# Altium footprint library Mosfet.PcbLib: 27 footprints (part 2 of 2)
Each footprint in its own frame and in the unit in brackets; x right, y up, seen from the top. Pads: shape width x height; smd on the part's side, far side on the other; paste and mask are expansions set on the pad; w line width, h text height; cw(c..) or ccw(c..) is an arc to the next point about the centre after c.
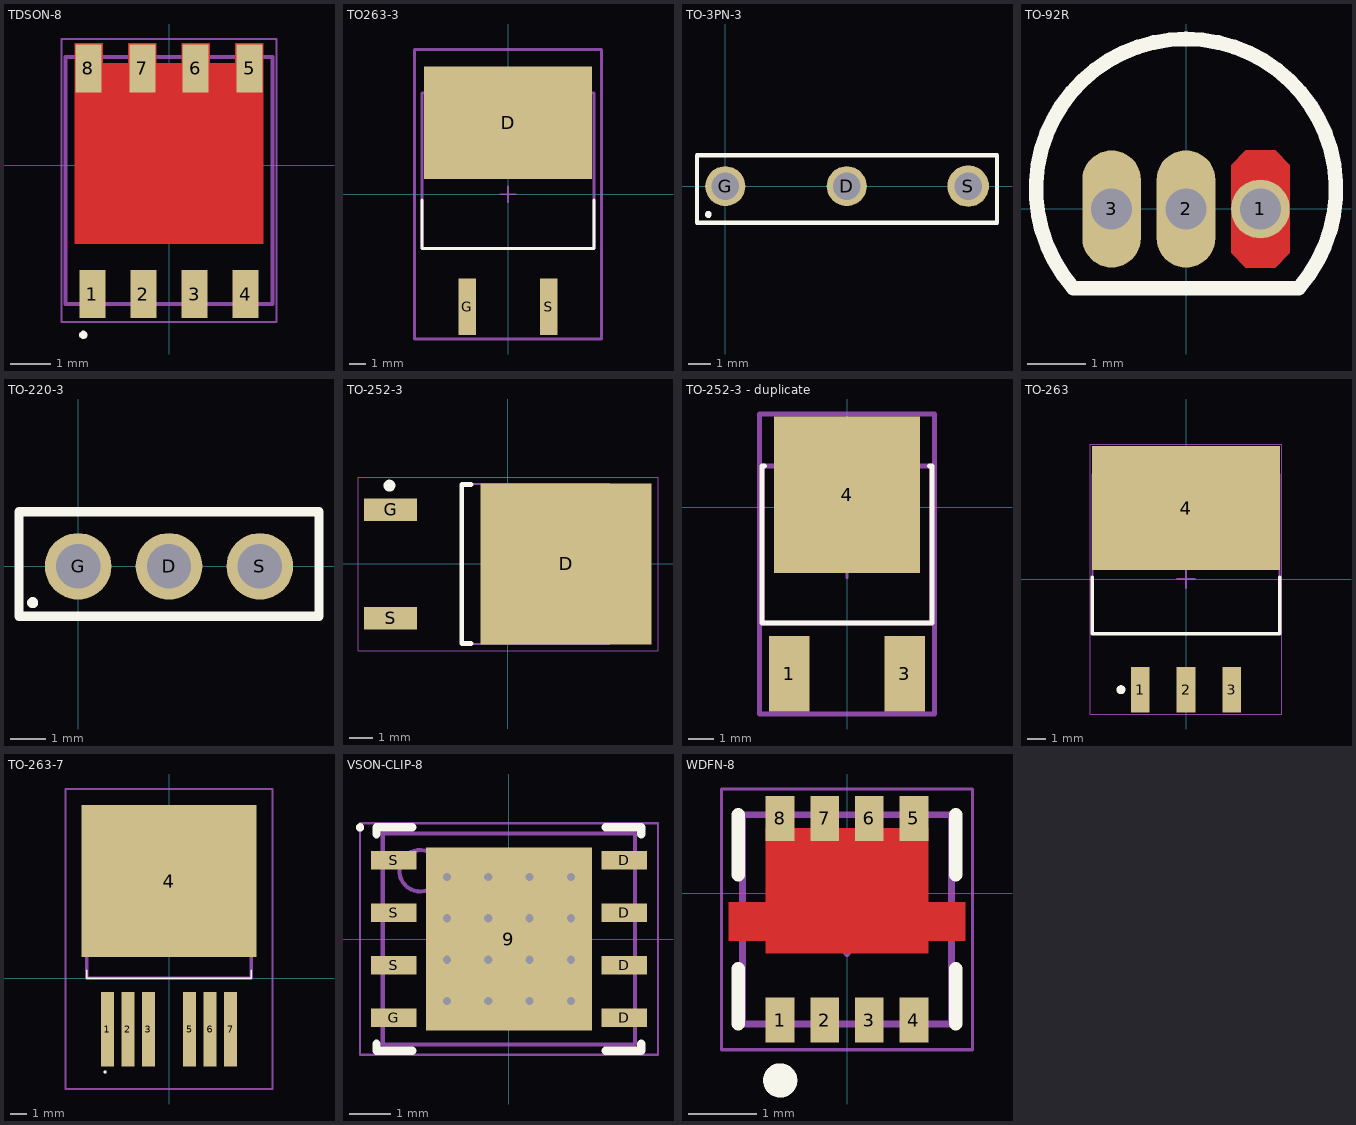
[diagram p1: the footprints below, top view; thin cyan lines are the x and y axes]

## TDSON-8 [mm]
pads (8):
  rect 0.65x1.2 smd: 1(-1.905,-3.206) 2(-0.635,-3.206) 3(0.635,-3.206) 4(1.905,-3.206) 5(2.007,2.413) 6(0.66,2.413) 7(-0.66,2.413) 8(-2.007,2.413)
Top Layer:
  region: 0.315,2.544 1.015,2.544 1.015,3.044 0.315,3.044
  region: -1.015,2.544 -0.315,2.544 -0.315,3.044 -1.015,3.044
  region: 1.65,2.544 2.35,2.544 2.35,3.044 1.65,3.044
  region: -2.35,2.544 -1.65,2.544 -1.65,3.044 -2.35,3.044
  region: -2.35,2.544 -2.35,-1.956 2.35,-1.956 2.35,2.544
Top Overlay:
  region: -2.234,-4.223 -2.234,-4.243 -2.218,-4.28 -2.19,-4.308 -2.153,-4.323 -2.134,-4.323 -2.114,-4.323 -2.077,-4.308 -2.049,-4.28 -2.034,-4.243 -2.034,-4.223 -2.034,-4.203 -2.049,-4.166 -2.077,-4.138 -2.114,-4.123 -2.134,-4.123 -2.153,-4.123 -2.19,-4.138 -2.218,-4.166 -2.234,-4.203
Mechanical 13:
  lines w0.1: -2.575,-3.456 2.575,-3.456 2.575,2.694 -2.575,2.694 -2.575,-3.456
Mechanical 15:
  lines w0.05: -2.675,-3.906 2.675,-3.906 2.675,3.144 -2.675,3.144 -2.675,-3.906
  lines w0.1: -0.5,-0.381 0.5,-0.381 ; 0,-0.881 0,0.119
3D body: height 1, standoff 0, extent -2.575,-3.456 2.575,2.694

## TO263-3 [mm]
pads (3):
  rect 10.41x7.01 smd paste+0 mask+0: D(0,4.445)
  rect 1.1x3.5 smd paste+0 mask+0: G(-2.54,-6.985) S(2.54,-6.985)
Top Overlay:
  lines w0.2: -5.335,-0.375 -5.335,-3.36 5.335,-3.36 5.335,-0.375
Mechanical 10:
  lines w0.2: -5.815,-8.99 -5.815,8.99 5.815,8.99 5.815,-8.99 -5.815,-8.99
  text ".Designator" at 0,-0.001 h1
Mechanical 12:
  lines w0.2: -5.335,-3.36 -5.335,6.29 5.335,6.29 5.335,-3.36 -5.335,-3.36
Mechanical 15:
  lines w0.1: -0.5,0 0.5,0 ; 0,-0.5 0,0.5
  lines w0.2: -5.815,-8.99 -5.815,8.99 5.815,8.99 5.815,-8.99 -5.815,-8.99
3D body "Trans_Infineon_IRFS7530TRLPBF_eec.STEP": height 0.25, standoff 0, extent -5.815,-8.99 5.815,8.99

## TO-3PN-3 [mm]
pads (3):
  round 1.8 hole 1.24: D(5.45,0) G(0,0)
  round 1.86 hole 1.24: S(10.9,0)
Top Overlay:
  circle w0.254: c-0.762,-1.27 r0.025
  lines w0.2: -1.27,-1.651 12.192,-1.651 12.192,1.397 -1.27,1.397 -1.27,-1.651
3D body "User Library-FDS24N50.STEP": height 23.33, standoff -5, extent -2.35,-3 13.25,1.8
3D body "User Library-FDS24N50.STEP": height 23.33, standoff -5, extent -2.35,-3 13.25,1.8
3D body "User Library-FDS24N50.STEP": height 23.33, standoff -5, extent -2.35,-3 13.25,1.8

## TO-92R [mm]
pads (3):
  round 1 hole 0.7 mask+0: 1(1.27,0)
  oval 1x2 hole 0.7: 2(0,0) 3(-1.27,0)
Top Layer:
  region: 1.769,0.75 1.769,-0.75 1.52,-0.999 1.02,-0.999 0.771,-0.75 0.771,0.75 1.02,0.999 1.52,0.999
Bottom Layer:
  region: 1.769,0.75 1.769,-0.75 1.52,-0.999 1.02,-0.999 0.771,-0.75 0.771,0.75 1.02,0.999 1.52,0.999
Top Overlay:
  lines w0.25: -1.932,-1.338 cw(c0,0.341) 1.932,-1.338 ; -1.921,-1.35 1.921,-1.35
Top Solder:
  region: 1.872,0.792 1.872,-0.792 1.562,-1.102 0.978,-1.102 0.668,-0.792 0.668,0.792 0.978,1.102 1.562,1.102
Bottom Solder:
  region: 1.872,0.792 1.872,-0.792 1.562,-1.102 0.978,-1.102 0.668,-0.792 0.668,0.792 0.978,1.102 1.562,1.102
3D body "step_temp.STEP": height 7.74, standoff -1.66, extent -2.399,-1.533 2.399,2.4

## TO-220-3 [mm]
pads (3):
  round 1.86 hole 1.24: D(2.54,0) G(0,0) S(5.08,0)
Top Overlay:
  circle w0.254: c-1.27,-1.016 r0.025
  lines w0.254: -1.651,-1.397 6.731,-1.397 6.731,1.524 -1.651,1.524 -1.651,-1.397
3D body "ALSRobot-TO-220-3.step": height 19.3, standoff -9.48, extent -2.41,-1.96 7.49,2.54

## TO-252-3 [mm] "D-PAK, 3-Pads, Body 6,21x6,73mm (max), IPC Medium Density"
height 2.38
pads (3):
  rect 7.2x6.8 smd: D(2.45,0)
  rect 2.25x0.95 smd: G(-4.953,2.286) S(-4.953,-2.286)
Top Overlay:
  circle w0.25: c-5,3.305 r0.125
  lines w0.2: -1.55,-3.35 -1.95,-3.35 -1.95,3.35 -1.55,3.35
Mechanical 13:
  lines w0.1: -1.95,-3.375 4.27,-3.375 4.27,3.375 -1.95,3.375 -1.95,-3.375
Mechanical 15:
  lines w0.05: -6.325,-3.65 6.325,-3.65 6.325,3.65 -6.325,3.65 -6.325,-3.65
  lines w0.1: -0.5,0 0.5,0 ; 0,-0.5 0,0.5
3D body "DPAK228P991X238-3N.step": height 2.99, standoff 0, extent -4.1,-3.375 5.805,3.375

## TO-252-3 - duplicate [mm] "D-PAK, 3-Pads, Body 6,21x6,73mm (max), IPC Medium Density"
height 2.38
pads (3):
  rect 1.6x3 smd paste+0 mask+0: 1(-2.285,-6.586) 3(2.285,-6.586)
  rect 5.8x6.2 smd paste+0 mask+0: 4(0,0.504)
Top Overlay:
  lines w0.2: -3.275,1.649 -3.365,1.649 -3.365,-4.571 3.365,-4.571 3.365,1.649 3.275,1.649
Top 3D Body:
  lines w0.2: -3.365,-4.571 -3.365,1.649 3.365,1.649 3.365,-4.571 -3.365,-4.571
Board:
  lines w0.2: -3.465,-8.186 -3.465,3.704 3.465,3.704 3.465,-8.186 -3.465,-8.186
Top Assembly:
  lines w0.2: -3.465,-8.186 -3.465,3.704 3.465,3.704 3.465,-8.186 -3.465,-8.186
Top Component Center:
  lines w0.1: -0.5,-2.286 0.5,-2.286 ; 0,-2.786 0,-1.786
3D body "IC_ON_Semiconductor_MC7805CDTG_eec.STEP": height 0.25, standoff 0, extent -3.465,-8.186 3.465,3.704

## TO-263 [mm]
pads (4):
  rect 1.05x2.55 smd: 1(-2.54,-6.15) 2(0,-6.15) 3(2.54,-6.15)
  rect 10.45x6.9 smd: 4(0,3.95)
Top Overlay:
  circle w0.25: c-3.615,-6.15 r0.125
  lines w0.2: -5.2,0.1 -5.2,-3.05 5.2,-3.05 5.2,0.1
Mechanical 13:
  lines w0.1: -5.2,-3.05 5.2,-3.05 5.2,5.84 -5.2,5.84 -5.2,-3.05
Mechanical 15:
  lines w0.05: -5.325,-7.5 5.325,-7.5 5.325,7.5 -5.325,7.5 -5.325,-7.5
  lines w0.1: -0.5,0 0.5,0 ; 0,-0.5 0,0.5
3D body "KTT0003B_L.step": height 4.64, standoff 0, extent -5.2,-6.825 5.2,7.525

## TO-263-7 [mm]
pads (7):
  rect 0.8x4.6 smd: 1(-3.81,-3.15) 2(-2.54,-3.15) 3(-1.27,-3.15) 5(1.27,-3.15) 6(2.54,-3.15) 7(3.81,-3.15)
  rect 10.8x9.4 smd: 4(0,6)
Top Overlay:
  lines w0.1: -5.08,0.5 -5.08,0 5.08,0 5.08,0.5 ; -4,-5.8 cw(c-3.95,-5.8) -3.9,-5.8 cw(c-3.95,-5.8) -4,-5.8
Mechanical 13:
  lines w0.2: -5.08,0 -5.08,6 5.08,6 5.08,0 -5.08,0
Mechanical 15:
  lines w0.1: -6.4,-6.85 -6.4,11.7 6.4,11.7 6.4,-6.85 -6.4,-6.85
3D body "IRFS7730TRL7PP.stp": height 4.83, standoff 0, extent -5.335,-5.515 5.335,10.365

## VSON-CLIP-8 [mm] "SON, 8-Leads, Body 5,00x6,00mm, Pitch 1,27mm, Thermal Pad 4,42x4,02mm, IPC Medium Density"
height 1.05
pads (9):
  rect 4.02x4.42 smd paste-2.01: 9(0,0)
  rect 1.1x0.45 smd: D(2.785,-1.905) D(2.785,-0.635) D(2.785,0.635) D(2.785,1.905) G(-2.785,-1.905) S(-2.785,-0.635) S(-2.785,0.635) S(-2.785,1.905)
via -1.5,1.5 diameter 0.5 hole 0.2
via -0.5,1.5 diameter 0.5 hole 0.2
via 0.5,1.5 diameter 0.5 hole 0.2
via 1.5,1.5 diameter 0.5 hole 0.2
via -1.5,0.5 diameter 0.5 hole 0.2
via -0.5,0.5 diameter 0.5 hole 0.2
via 0.5,0.5 diameter 0.5 hole 0.2
via 1.5,0.5 diameter 0.5 hole 0.2
via -1.5,-0.5 diameter 0.5 hole 0.2
via -0.5,-0.5 diameter 0.5 hole 0.2
via 0.5,-0.5 diameter 0.5 hole 0.2
via 1.5,-0.5 diameter 0.5 hole 0.2
via -1.5,-1.5 diameter 0.5 hole 0.2
via -0.5,-1.5 diameter 0.5 hole 0.2
via 0.5,-1.5 diameter 0.5 hole 0.2
via 1.5,-1.5 diameter 0.5 hole 0.2
Top Overlay:
  circle w0.1: c-3.6,2.7 r0.05
  lines w0.2: -3.2,-2.53 -3.2,-2.7 -2.335,-2.7 ; -3.2,2.53 -3.2,2.7 -2.335,2.7 ; 2.335,-2.7 3.2,-2.7 3.2,-2.53 ; 2.335,2.7 3.2,2.7 3.2,2.53
Top Paste:
  rectangle: -1.91,0.835 -0.77,2.105
  rectangle: -1.91,-0.635 -0.77,0.635
  rectangle: -1.91,-2.105 -0.77,-0.835
  rectangle: -0.57,0.835 0.57,2.105
  rectangle: -0.57,-0.635 0.57,0.635
  rectangle: -0.57,-2.105 0.57,-0.835
  rectangle: 0.77,0.835 1.91,2.105
  rectangle: 0.77,-0.635 1.91,0.635
  rectangle: 0.77,-2.105 1.91,-0.835
Top Courtyard:
  lines w0.05: -3.605,-2.8 -3.605,2.8 3.605,2.8 3.605,-2.8 -3.605,-2.8
  lines w0.1: -0.5,0 0.5,0 ; 0,-0.5 0,0.5
Top Assembly:
  circle w0.1: c-2.15,1.65 r0.5
  lines w0.1: -3.05,-2.55 -3.05,2.55 3.05,2.55 3.05,-2.55 -3.05,-2.55
3D body: height 1.05, standoff 0, extent -3.05,-2.55 3.05,2.55

## WDFN-8 [mm]
pads (8):
  rect 0.42x0.66 smd: 1(-0.975,-1.851) 2(-0.325,-1.851) 3(0.325,-1.851) 4(0.975,-1.851) 5(0.975,1.089) 6(0.325,1.089) 7(-0.325,1.089) 8(-0.975,1.089)
Top Layer:
  region: 1.73,-0.131 -1.73,-0.131 -1.73,-0.701 1.73,-0.701
  region: 1.185,0.949 -1.185,0.949 -1.185,-0.881 1.185,-0.881
Top Overlay:
  circle w0.25: c-0.975,-2.731 r0.125
  lines w0.2: -1.585,-1.906 -1.585,-1.101 ; -1.585,0.269 -1.585,1.144 ; 1.585,-1.906 1.585,-1.101 ; 1.585,0.269 1.585,1.144
Mechanical 13:
  lines w0.1: -1.525,-1.906 -1.525,1.144 1.525,1.144 1.525,-1.906 -1.525,-1.906
Mechanical 15:
  lines w0.05: -1.83,-2.281 -1.83,1.519 1.83,1.519 1.83,-2.281 -1.83,-2.281
  lines w0.1: -0.5,-0.381 0.5,-0.381 ; 0,-0.881 0,0.119
3D body: height 0.8, standoff 0, extent -1.525,-1.906 1.525,1.144